# Altium footprint library DFN-8(3.0X3.0).PcbLib: 1 footprints
Each footprint in its own frame and in the unit in brackets; x right, y up, seen from the top. Pads: shape width x height; smd on the part's side, far side on the other; paste and mask are expansions set on the pad; w line width, h text height; cw(c..) or ccw(c..) is an arc to the next point about the centre after c.
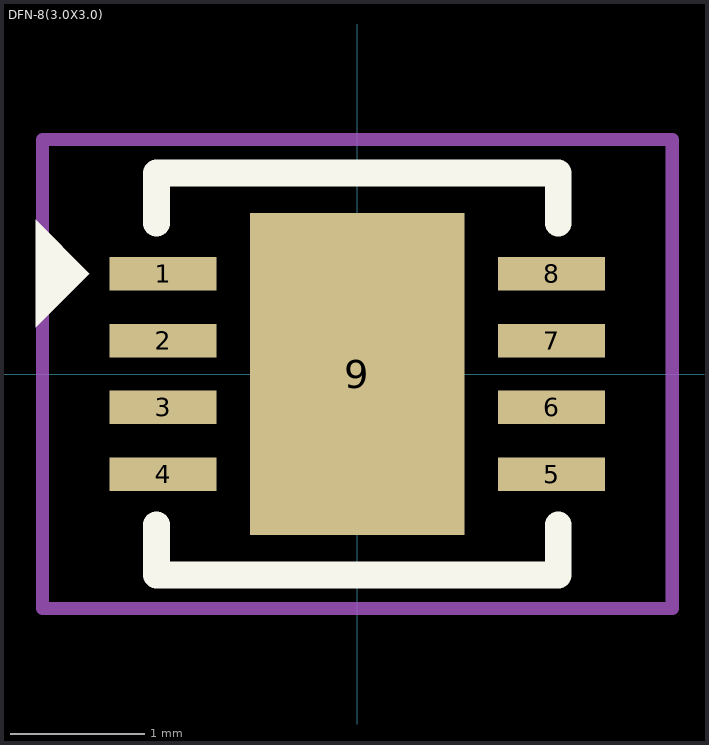
[diagram p0: the footprint, top view; thin cyan lines are the x and y axes]

## DFN-8(3.0X3.0) [mm]
pads (9):
  rect 0.8x0.25 smd: 1(-1.45,0.75) 2(-1.45,0.25) 3(-1.45,-0.25) 4(-1.45,-0.75) 5(1.45,-0.75) 6(1.45,-0.25) 7(1.45,0.25) 8(1.45,0.75)
  rect 1.6x2.4 smd paste-2: 9(0,0)
Top Overlay:
  region: -2.4,0.35 -2.4,1.15 -2,0.75
  lines w0.2: -1.5,-1.125 -1.5,-1.5 1.5,-1.5 1.5,-1.125 ; -1.5,1.125 -1.5,1.5 1.5,1.5 1.5,1.125
Top Courtyard:
  lines w0.1: -2.35,-1.75 -2.35,1.75 2.35,1.75 2.35,-1.75 -1.5,-1.75 -2.35,-1.75
3D body "User Library-DFN-8.step": height 0.8, standoff 0, extent -1.51,-1.5 1.51,1.5